# Altium schematic symbol library LP2951ACSDX-3.3_NOPB.SchLib: 1 symbol
Pins are listed as number, name and electrical type; pins without a type are passive.

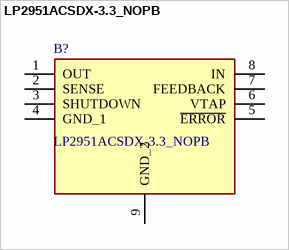
[diagram p0: symbol LP2951ACSDX-3.3_NOPB]

## LP2951ACSDX-3.3_NOPB
designator B?
Series of Adjustable Micropower Voltage Regulators; Manufacturer_Name: Texas Instruments; Manufacturer_Part_Number: LP2951ACSDX-3.3/NOPB; Geometry.Height: 0.8mm; Mouser Part Number: 926-LP2951ACSDX33NPB; Mouser Price/Stock: https://www.mouser.co.uk/ProductDetail/Texas-Instruments/LP2951ACSDX-3.3-NOPB?qs=7lkVKPoqpbbkq6LfzZBrqw%3D%3D; Datasheet Link: http://www.ti.com/lit/gpn/LP2951-N
footprint SON80P400X400X80-9N
pins: 1 OUT, 2 SENSE, 3 SHUTDOWN, 4 GND_1, 5 ~{ERROR}, 6 VTAP, 7 FEEDBACK, 8 IN, 9 GND_2